# EAGLE library part TC2070 (library tag-connect)
TC2030 pad no. Function STLink v3 CN1 pin no. Function 1 N/A 1 Reserved (1) 2 N/A 2 Reserved (1) 3 T_Vcc 3 T_Vcc (2) 4 T_JTMS/T_SWDIO 4 T_JTMS/T_SWDIO 5 GND 5 GND 6 T_JCLK / T_SWCLK 6 T_JCLK / T_SWCLK 7 GND 7 GND 8 T_JTDO / T_SWO 8 T_JTDO / T_SWO (3) 9 T_JRCLK 9 T_JRCLK (4) / NC (5) 10 T_JTDI 10 T_JTDI / NC (5) 11 GND 11 GNDDetect (6) 12 T_NRST 12 T_NRST 13 T_VCP_RX 13 T_VCP_RX (7) 14 T_VCP_TX 14 T_VCP_TX (2) (1) Do not connect to the target (2) Input for STLINK-V3SET (3) SWO is optional, required only for Serial Wire Viewer (SWV) trace (4) Optional loopback of T_JCLK on the target side, required if loopback is removed on the STLINK-V3SET side (5) NC means not required for the SWD connection (6) Tied to GND by STLINK-V3SET firmware; may be used by the target for detection of the tool (7) Output for STLINK-V3SET
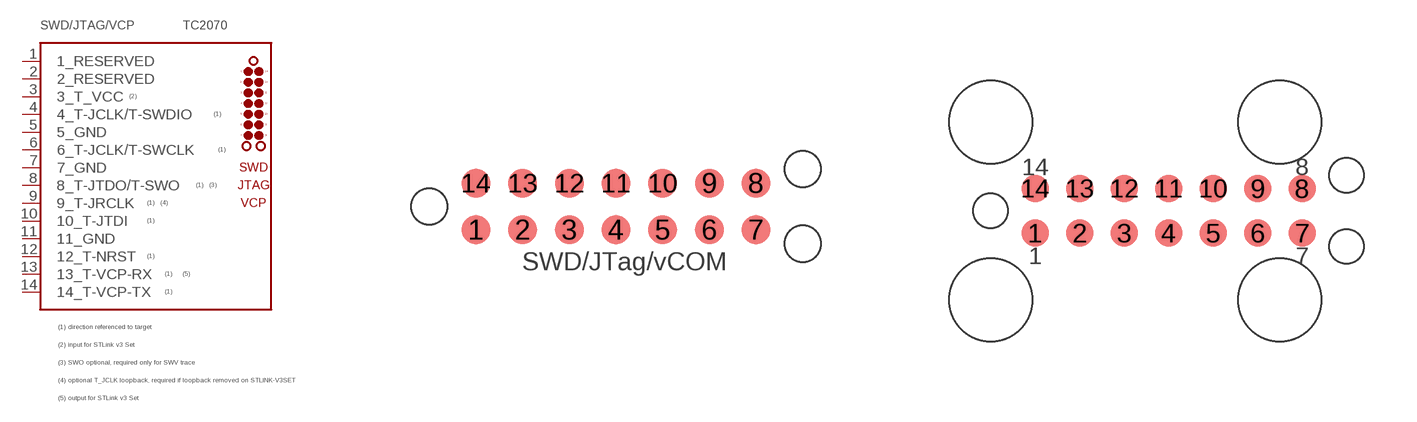
[diagram p2: symbol with the pads of TC2070-NL; footprints TC2070-NL, TC2070]

Designator prefix SWD/JTAG/VCP

## TC2070  [TC2070-NL]
1  1_RESERVED  nc
2  2_RESERVED  nc
3  3_T_VCC  pwr
4  4_T-JCLK/T-SWDIO
5  5_GND  pwr
6  6_T-JCLK/T-SWCLK
7  7_GND  pwr
8  8_T-JTDO/T-SWO  in
9  9_T-JRCLK
10  10_T-JTDI  out
11  11_GND  pwr
12  12_T-NRST
13  13_T-VCP-RX  out
14  14_T-VCP-TX  in

## TC2070TC2070  [TC2070]
Pads as for TC2070-NL

## Footprint TC2070-NL (pad centres in mm)
smd 0.787 x 0.787: 1 -2.54,-0.635; 2 -1.27,-0.635; 3 0,-0.635; 4 1.27,-0.635; 5 2.54,-0.635; 6 3.81,-0.635; 7 5.08,-0.635; 8 5.08,0.635; 9 3.81,0.635; 10 2.54,0.635; 11 1.27,0.635; 12 0,0.635; 13 -1.27,0.635; 14 -2.54,0.635
hole 0.991 at -3.81,0
hole 0.991 at 6.35,-1.016
hole 0.991 at 6.35,1.016

## Footprint TC2070 (pad centres in mm)
smd 0.787 x 0.787: 1 1.27,-0.635; 2 2.54,-0.635; 3 3.81,-0.635; 4 5.08,-0.635; 5 6.35,-0.635; 6 7.62,-0.635; 7 8.89,-0.635; 8 8.89,0.635; 9 7.62,0.635; 10 6.35,0.635; 11 5.08,0.635; 12 3.81,0.635; 13 2.54,0.635; 14 1.27,0.635
hole 0.991 at 0,0
hole 0.991 at 10.16,-1.016
hole 0.991 at 10.16,1.016
hole 2.375 at 0,2.54
hole 2.375 at 0,-2.54
hole 2.375 at 8.255,2.54
hole 2.375 at 8.255,-2.54